# Altium footprint library SMD Capacitors 0805.PcbLib: 2 footprints
Each footprint in its own frame and in the unit in brackets; x right, y up, seen from the top. Pads: shape width x height; smd on the part's side, far side on the other; paste and mask are expansions set on the pad; w line width, h text height; cw(c..) or ccw(c..) is an arc to the next point about the centre after c.
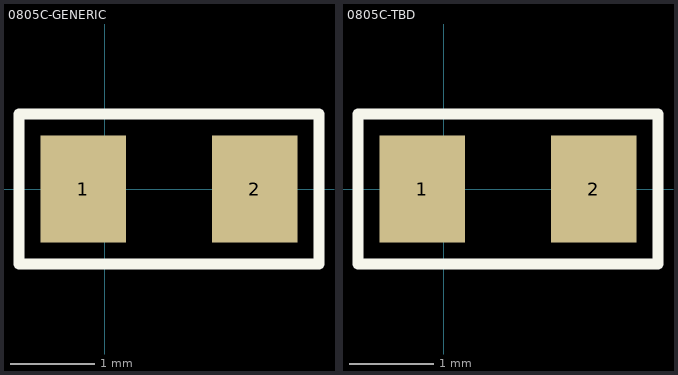
[diagram p0: the footprints below, top view; thin cyan lines are the x and y axes]

## 0805C-GENERIC [mil] "CAPACITOR 0805"
pads (2):
  rect 40x50 smd: 1(-10,0) 2(70,0)
Top Overlay:
  lines w5: -40,-35 100,-35 100,35 -40,35 -40,-35
3D body: height 23, standoff 22, extent 45,2.5 52.5,17.5
3D body: height 23, standoff 22, extent 35,2.5 42.5,17.5
3D body: height 23, standoff 22, extent 10.5,-15 18,0
3D body: height 23, standoff 22, extent -5,2.5 2.5,17.5
3D body: height 23, standoff 22, extent 5,2.5 12.5,17.5
3D body: height 23, standoff 22, extent 15,2.5 22.5,17.5
3D body: height 23, standoff 22, extent 25,2.5 32.5,17.5
3D body: height 23, standoff 22, extent 20.5,-15 28,0
3D body: height 23, standoff 22, extent 0.5,-15 8,0
3D body: height 23, standoff 22, extent 30.5,-15 38,0
3D body: height 23, standoff 22, extent 40.5,-15 48,0
3D body: height 25, standoff 0, extent -10,-24 69,24
3D body: height 26, standoff 0, extent -11,-25 5,25
3D body: height 26, standoff 0, extent 54,-25 70,25

## 0805C-TBD [mil] "CAPACITOR 0805"
pads (2):
  rect 40x50 smd: 1(-10,0) 2(70,0)
Top Overlay:
  lines w5: -40,-35 100,-35 100,35 -40,35 -40,-35
3D body: height 26, standoff 25, extent 35.5,-4 43,9.5
3D body: height 26, standoff 25, extent 38,-8 40,-6
3D body: height 26, standoff 25, extent 25.5,-4 33,9.5
3D body: height 26, standoff 25, extent 28,-8 30,-6
3D body: height 26, standoff 25, extent 18,-8 20,-6
3D body: height 26, standoff 25, extent 15.5,-4 23,9.5
3D body: height 25, standoff 0, extent -10,-24 69,24
3D body: height 26, standoff 0, extent -11,-25 5,25
3D body: height 26, standoff 0, extent 54,-25 70,25